# EAGLE library part USB-A_TH (library TL-WR703N)
USB A Through-Hole Socket Copyright © 2012, Michel Stempin, All rights reserved Licenced under Creative Commons CC BY-SA 3.0 <http://creativecommons.org/licenses/by-sa/3.0/deed.en> license.
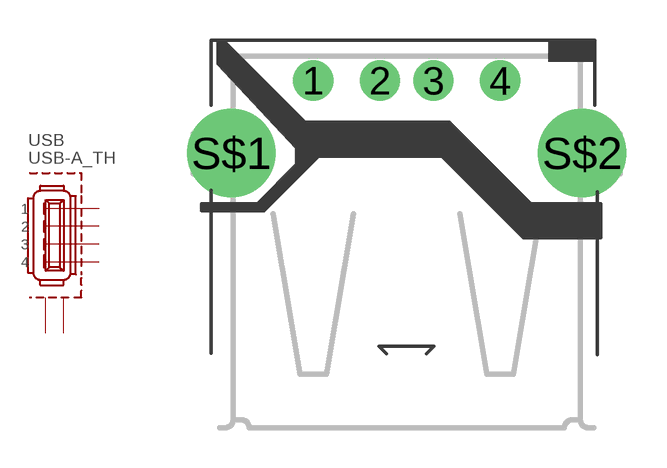
[diagram p4: symbol with the pads of USB-A_TH; footprint USB-A_TH]

Designator prefix USB

## USB-A_TH  [USB-A_TH]
1  1  pas
2  2  pas
3  3  pas
4  4  pas
S$1  M1  pas
S$2  M2  pas

## Footprint USB-A_TH (pad centres in mm)
USB A Through-Hole Socket Copyright © 2012, Michel Stempin, All rights reserved Licenced under Creative Commons CC BY-SA 3.0 <http://creativecommons.org/licenses/by-sa/3.0/deed.en> license.
drill 1: 1 -3.5,12.99; 2 -1,12.99; 3 1,12.99; 4 3.5,12.99
drill 2.3 pad 2.8: S$1 -6.57,10.28; S$2 6.57,10.28